# EAGLE library part EVQQ7 (library adafruit)
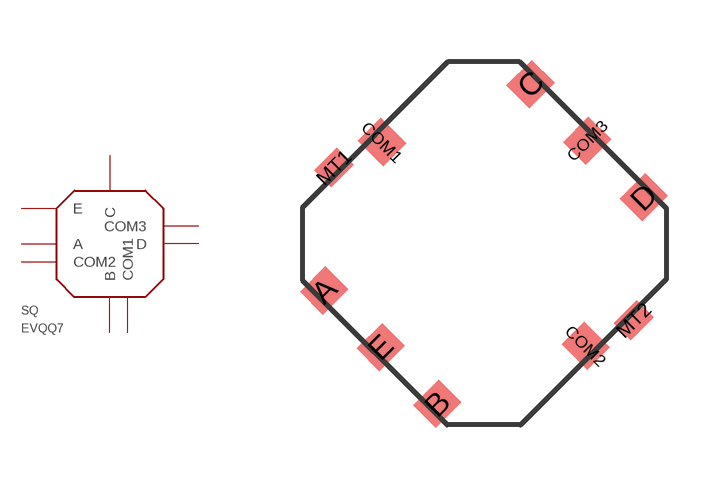
[diagram p119: symbol with the pads of EVQQ7GA50; footprint EVQQ7GA50]

Designator prefix SQ

## EVQQ7GA50  [EVQQ7GA50]
A  A
B  B
C  C
COM1  COM1
COM2  COM2
COM3  COM3
D  D
E  E

## Footprint EVQQ7GA50 (pad centres in mm)
smd 0.8 x 0.9 rotated 135: A -3.995,-1.167; B -1.167,-3.995; C 1.167,3.995; COM3 2.581,2.581; D 3.995,1.167; E -2.581,-2.581
smd 0.8 x 0.9 rotated 45: COM1 -2.546,2.546; COM2 2.546,-2.546
smd 0.8 x 0.6 rotated 45: MT1 -3.748,1.909; MT2 3.748,-1.909